# Altium footprint library BGM220PC22HNA2R.PcbLib: 1 footprints
Each footprint in its own frame and in the unit in brackets; x right, y up, seen from the top. Pads: shape width x height; smd on the part's side, far side on the other; paste and mask are expansions set on the pad; w line width, h text height; cw(c..) or ccw(c..) is an arc to the next point about the centre after c.
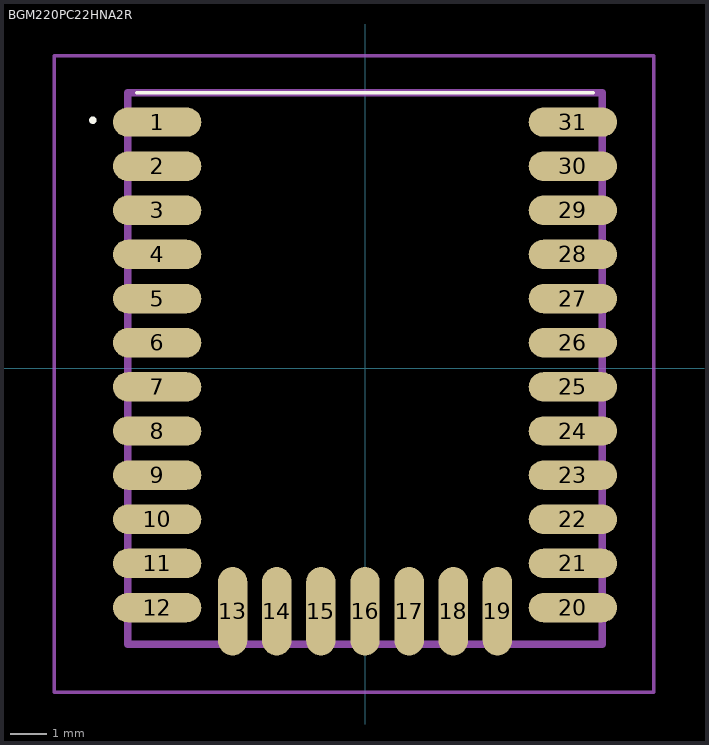
[diagram p0: the footprint, top view; thin cyan lines are the x and y axes]

## BGM220PC22HNA2R [mm]
pads (31):
  oval 2.4x0.8 smd: 1(-5.65,6.7) 2(-5.65,5.5) 3(-5.65,4.3) 4(-5.65,3.1) 5(-5.65,1.9) 6(-5.65,0.7) 7(-5.65,-0.5) 8(-5.65,-1.7) 9(-5.65,-2.9) 10(-5.65,-4.1) 11(-5.65,-5.3) 12(-5.65,-6.5) 20(5.65,-6.5) 21(5.65,-5.3) 22(5.65,-4.1) 23(5.65,-2.9) 24(5.65,-1.7) 25(5.65,-0.5) 26(5.65,0.7) 27(5.65,1.9) 28(5.65,3.1) 29(5.65,4.3) 30(5.65,5.5) 31(5.65,6.7)
  oval 0.8x2.4 smd: 13(-3.6,-6.6) 14(-2.4,-6.6) 15(-1.2,-6.6) 16(0,-6.6) 17(1.2,-6.6) 18(2.4,-6.6) 19(3.6,-6.6)
Top Overlay:
  lines w0.1: -6.2,7.5 6.2,7.5 ; -7.4,6.7 cw(c-7.4,6.75) -7.4,6.8 ; -7.4,6.7 -7.4,6.7 ; -7.4,6.7 ccw(c-7.4,6.75) -7.4,6.8 ; -7.4,6.8 -7.4,6.8
Mechanical 15:
  lines w0.2: -6.45,-7.5 6.45,-7.5 6.45,7.5 -6.45,7.5 -6.45,-7.5
Mechanical 20:
  lines w0.1: -8.45,-8.8 7.85,-8.8 7.85,8.5 -8.45,8.5 -8.45,-8.8